# Altium integrated library connector board to board.IntLib: 3 symbols
Pins are listed as number, name and electrical type; pins without a type are passive.

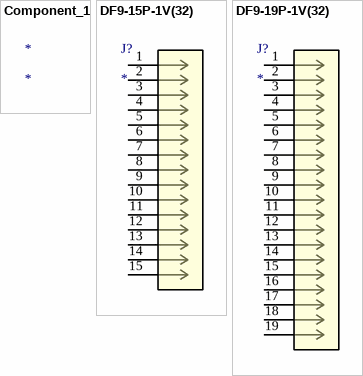
[diagram p0: symbols Component_1 to DF9-19P-1V(32)]

## Component_1
designator *

## DF9-15P-1V(32)
designator J?
Imported; Manufacturer_Part_Number: DF9-15P-1V(32); Vendor: Hirose; Built_By: EMA_UL_Team; C: Copyright (C) 2015 Accelerated Designs. All rights reserved; RefDes: RefDes; Type: DEV; Value: Value
footprint CON9_1X15_MDZL_D
pins: 1, 2, 3, 4, 5, 6, 7, 8, 9, 10, 11, 12, 13, 14, 15

## DF9-19P-1V(32)
designator J?
Imported; Manufacturer_Part_Number: DF9-19P-1V(32); Vendor: Hirose; Built_By: EMA_UL_Team; C: Copyright (C) 2015 Accelerated Designs. All rights reserved; RefDes: RefDes; Type: DEV; Value: Value
footprint CON9_1X19_MDZL_D
pins: 1, 2, 3, 4, 5, 6, 7, 8, 9, 10, 11, 12, 13, 14, 15, 16, 17, 18, 19